# Altium footprint library CSNL1206FT3L00.PcbLib: 3 footprints
Each footprint in its own frame and in the unit in brackets; x right, y up, seen from the top. Pads: shape width x height; smd on the part's side, far side on the other; paste and mask are expansions set on the pad; w line width, h text height; cw(c..) or ccw(c..) is an arc to the next point about the centre after c.
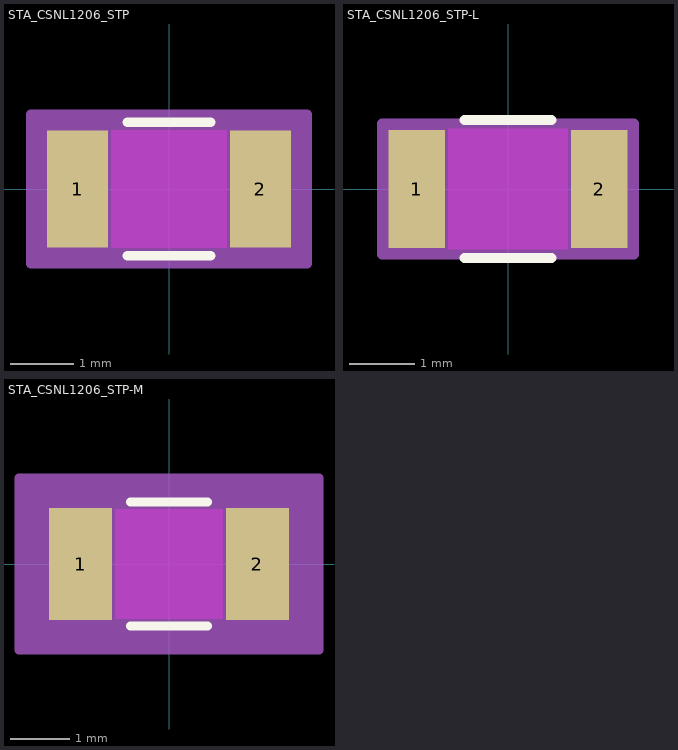
[diagram p0: the footprints below, top view; thin cyan lines are the x and y axes]

## STA_CSNL1206_STP [mil]
pads (2):
  rect 38x73 smd paste+0 mask+0: 1(-57,0) 2(57,0)
Top Layer keep-out:
  region: -36,-34.5 -36,34.5 36,34.5 36,-34.5
Top Overlay:
  lines w6: -25.89,-41.5 25.89,-41.5 ; -25.89,41.5 25.89,41.5
Keep-Out Layer:
  region: -36,-36.5 -36,36.5 36,36.5 36,-36.5
Mechanical 13:
  lines w1: -68,-36.5 -68,36.5 ; -68,-36.5 -38,-36.5 -38,36.5 -68,36.5 ; -68,-36.5 68,-36.5 ; -68,-36.5 -68,36.5 ; -68,36.5 68,36.5 ; 68,-36.5 38,-36.5 38,36.5 68,36.5 ; 68,-36.5 68,36.5 ; 68,-36.5 68,36.5
Mechanical 15:
  region: 86,-46.5 -86,-46.5 -86,46.5 86,46.5
  lines w6: -86,-46.5 -86,46.5 86,46.5 86,-46.5 -86,-46.5
3D body "STA_CSNL1206_STP.step": height 35, standoff 0, extent -67.99,-36.5 67.99,36.5

## STA_CSNL1206_STP-L [mil]
pads (2):
  rect 34x71 smd paste+0 mask+0: 1(-55,0) 2(55,0)
Top Layer keep-out:
  region: -36,-34.5 -36,34.5 36,34.5 36,-34.5
Top Overlay:
  lines w6: -26.35,-41.5 26.35,-41.5 ; -26.35,41.5 26.35,41.5
Keep-Out Layer:
  region: -36,-36.5 -36,36.5 36,36.5 36,-36.5
Mechanical 13:
  lines w1: -68,-36.5 -68,36.5 ; -68,-36.5 -38,-36.5 -38,36.5 -68,36.5 ; -68,-36.5 68,-36.5 ; -68,-36.5 -68,36.5 ; -68,36.5 68,36.5 ; 68,-36.5 38,-36.5 38,36.5 68,36.5 ; 68,-36.5 68,36.5 ; 68,-36.5 68,36.5
Mechanical 15:
  region: 76,-39.5 -76,-39.5 -76,39.5 76,39.5
  lines w6: -76,-39.5 -76,39.5 76,39.5 76,-39.5 -76,-39.5
3D body "STA_CSNL1206_STP.step": height 35, standoff 0, extent -67.99,-36.5 67.99,36.5

## STA_CSNL1206_STP-M [mil]
pads (2):
  rect 42x75 smd paste+0 mask+0: 1(-59,0) 2(59,0)
Top Layer keep-out:
  region: -36,-34.5 -36,34.5 36,34.5 36,-34.5
Top Overlay:
  lines w6: -25.53,-41.5 25.53,-41.5 ; -25.53,41.5 25.53,41.5
Keep-Out Layer:
  region: -36,-36.5 -36,36.5 36,36.5 36,-36.5
Mechanical 13:
  lines w1: -68,-36.5 -68,36.5 ; -68,-36.5 -38,-36.5 -38,36.5 -68,36.5 ; -68,-36.5 68,-36.5 ; -68,-36.5 -68,36.5 ; -68,36.5 68,36.5 ; 68,-36.5 38,-36.5 38,36.5 68,36.5 ; 68,-36.5 68,36.5 ; 68,-36.5 68,36.5
Mechanical 15:
  region: 100,-57.5 -100,-57.5 -100,57.5 100,57.5
  lines w6: -100,-57.5 -100,57.5 100,57.5 100,-57.5 -100,-57.5
3D body "STA_CSNL1206_STP.step": height 35, standoff 0, extent -67.99,-36.5 67.99,36.5